# EAGLE library part HDSP-5501 (library #PaJa_displeje)
LED displej - SA - 14,2 mm - cervena
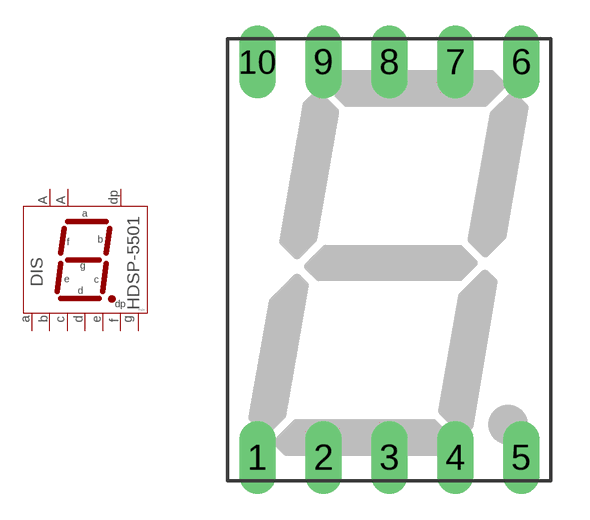
[diagram p11: symbol with the pads of HDSP-M; footprint HDSP-M]

Designator prefix DIS

## HDSP-5501  [HDSP-M]
1  E  pas
2  D  pas
3  CA1  pas
4  C  pas
5  DP  pas
6  B  pas
7  A  pas
8  CA2  pas
9  F  pas
10  G  pas

## Footprint HDSP-M (pad centres in mm)
7-segmentovy displej - spol. anoda
drill 0.813 pad 1.4 long: 1 -5.08,-7.62; 2 -2.54,-7.62; 3 0,-7.62; 4 2.54,-7.62; 5 5.08,-7.62; 6 5.08,7.62; 7 2.54,7.62; 8 0,7.62; 9 -2.54,7.62; 10 -5.08,7.62